# Altium integrated library LARS_409_DIODE.Library.IntLib: 24 symbols
Pins are listed as number, name and electrical type; pins without a type are passive.

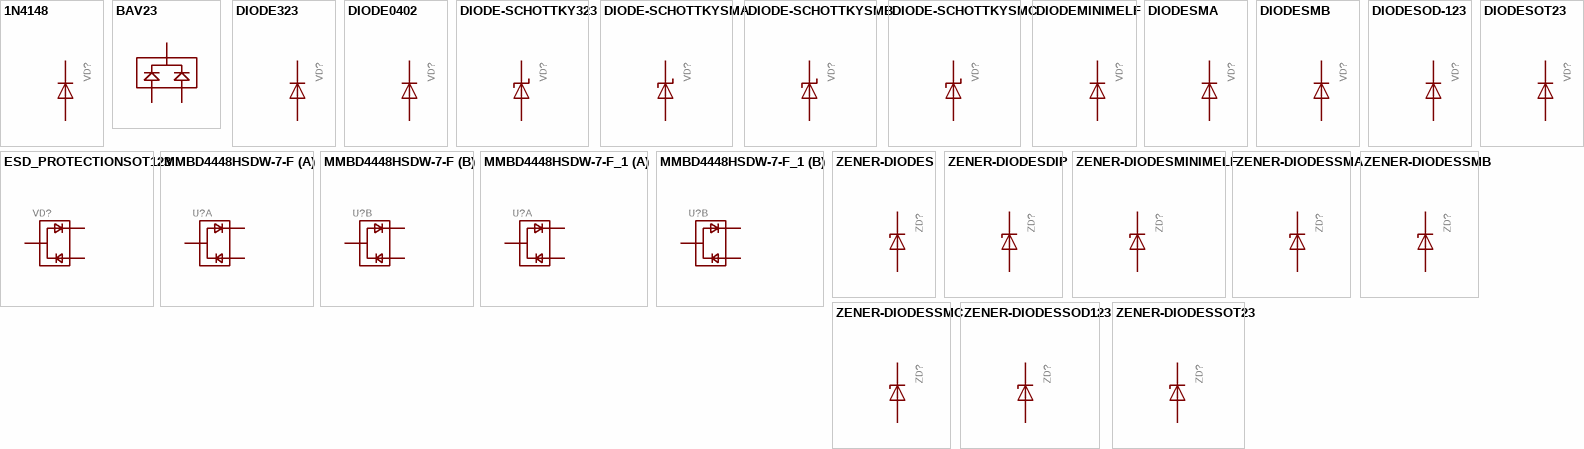
[diagram p0: symbols 1N4148 to ZENER-DIODESSOT23]

## 1N4148
designator VD?
GateName_1: G$1; SymbolName_1: DIODE; DeviceSetName: 1N4148; LibraryName: LARS_409_DIODE; Package: DO-35
footprint DO-35
pins: 1 C, 2 A

## BAV23
designator VD?
GateName_1: G$1; SymbolName_1: BAV23; LibraryName: LARS_409_DIODE; DeviceSetName: BAV23; Package: SOT23
footprint SOT23
pins: 1 (io), 2 (io), 3 (io)

## DIODE323
designator VD?
GateName_1: G$1; SymbolName_1: DIODE; DeviceName: 323; LibraryName: LARS_409_DIODE; DeviceSetName: DIODE; Package: SOD-323
footprint SOD-323
pins: 1 A, 2 C

## DIODE0402
designator VD?
GateName_1: G$1; SymbolName_1: DIODE; DeviceName: 0402; LibraryName: LARS_409_DIODE; DeviceSetName: DIODE; Package: 0402
footprint 0402
pins: 1 C, 2 A

## DIODE-SCHOTTKY323
designator VD?
GateName_1: G$1; SymbolName_1: DIODE-SCHOTTKY; DeviceName: 323; LibraryName: LARS_409_DIODE; DeviceSetName: DIODE-SCHOTTKY; Package: SOD-323
footprint SOD-323
pins: 1 A, 2 C

## DIODE-SCHOTTKYSMA
designator VD?
GateName_1: G$1; SymbolName_1: DIODE-SCHOTTKY; DeviceName: SMA; LibraryName: LARS_409_DIODE; DeviceSetName: DIODE-SCHOTTKY; Package: SMA
footprint SMA
pins: A, C

## DIODE-SCHOTTKYSMB
designator VD?
GateName_1: G$1; SymbolName_1: DIODE-SCHOTTKY; DeviceName: SMB; LibraryName: LARS_409_DIODE; DeviceSetName: DIODE-SCHOTTKY; Package: SMB
footprint SMB
pins: A, C

## DIODE-SCHOTTKYSMC
designator VD?
GateName_1: G$1; SymbolName_1: DIODE-SCHOTTKY; DeviceName: SMC; LibraryName: LARS_409_DIODE; DeviceSetName: DIODE-SCHOTTKY; Package: SMC
footprint SMC
pins: 1 C, 2 A

## DIODEMINIMELF
designator VD?
GateName_1: G$1; SymbolName_1: DIODE; DeviceName: MINIMELF; LibraryName: LARS_409_DIODE; DeviceSetName: DIODE; Package: MINIMELF
footprint MINIMELF
pins: A, C

## DIODESMA
designator VD?
GateName_1: G$1; SymbolName_1: DIODE; DeviceName: SMA; LibraryName: LARS_409_DIODE; DeviceSetName: DIODE; Package: SMA
footprint SMA
pins: A, C

## DIODESMB
designator VD?
GateName_1: G$1; SymbolName_1: DIODE; DeviceName: SMB; LibraryName: LARS_409_DIODE; DeviceSetName: DIODE; Package: SMB
footprint SMB
pins: A, C

## DIODESOD-123
designator VD?
GateName_1: G$1; SymbolName_1: DIODE; DeviceName: SOD-123; LibraryName: LARS_409_DIODE; DeviceSetName: DIODE; Package: SOD123
footprint SOD123
pins: A, C

## DIODESOT23
designator VD?
GateName_1: G$1; SymbolName_1: DIODE; DeviceName: SOT23; LibraryName: LARS_409_DIODE; DeviceSetName: DIODE; Package: SOT23
footprint SOT23
pins: 1 A, 3 C

## ESD_PROTECTIONSOT123
designator VD?
GateName_1: G$1; SymbolName_1: NUP; DeviceName: SOT123; DeviceSetName: ESD_PROTECTION; LibraryName: LARS_409_DIODE; Package: SOT23
footprint SOT23
pins: 1 GND (io), 2 VCC (io), 3 I/O (io)

## MMBD4448HSDW-7-F
designator U?
GateName_1: A; SymbolName_1: NUP; GateName_2: B; DeviceSetName: MMBD4448HSDW-7-F; SymbolName_2: NUP; LibraryName: LARS_409_DIODE; Package: SOT-363
footprint SOT-363
part A pins: P$1 GND (io), P$2 VCC (io), P$6 I/O (io)
part B pins: P$3 I/O (io), P$4 GND (io), P$5 VCC (io)

## MMBD4448HSDW-7-F_1
designator U?
GateName_1: A; SymbolName_1: NUP; GateName_2: B; DeviceSetName: MMBD4448HSDW-7-F; SymbolName_2: NUP; LibraryName: LARS_409_DIODE; Package: SOT-363
footprint SOT-363
part A pins: P$1 GND (io), P$2 VCC (io), P$6 I/O (io)
part B pins: P$3 I/O (io), P$4 GND (io), P$5 VCC (io)

## ZENER-DIODES
designator ZD?
GateName_1: G$1; SymbolName_1: ZENER-DIODE; DeviceSetName: ZENER-DIODES; LibraryName: LARS_409_DIODE; Package: SOD-323
footprint SOD-323
pins: 1 A, 2 C

## ZENER-DIODESDIP
designator ZD?
GateName_1: G$1; SymbolName_1: ZENER-DIODE; DeviceName: DIP; DeviceSetName: ZENER-DIODES; LibraryName: LARS_409_DIODE; Package: DIP
footprint DIP
pins: 1 C, 2 A

## ZENER-DIODESMINIMELF
designator ZD?
GateName_1: G$1; SymbolName_1: ZENER-DIODE; DeviceName: MINIMELF; DeviceSetName: ZENER-DIODES; LibraryName: LARS_409_DIODE; Package: MINIMELF
footprint MINIMELF
pins: A, C

## ZENER-DIODESSMA
designator ZD?
GateName_1: G$1; SymbolName_1: ZENER-DIODE; DeviceName: SMA; DeviceSetName: ZENER-DIODES; LibraryName: LARS_409_DIODE; Package: SMA
footprint SMA
pins: A, C

## ZENER-DIODESSMB
designator ZD?
GateName_1: G$1; SymbolName_1: ZENER-DIODE; DeviceName: SMB; DeviceSetName: ZENER-DIODES; LibraryName: LARS_409_DIODE; Package: SMB
footprint SMB
pins: A, C

## ZENER-DIODESSMC
designator ZD?
GateName_1: G$1; SymbolName_1: ZENER-DIODE; DeviceName: SMC; DeviceSetName: ZENER-DIODES; LibraryName: LARS_409_DIODE; Package: SMC
footprint SMC
pins: 1 C, 2 A

## ZENER-DIODESSOD123
designator ZD?
GateName_1: G$1; SymbolName_1: ZENER-DIODE; DeviceName: SOD123; DeviceSetName: ZENER-DIODES; LibraryName: LARS_409_DIODE; Package: SOD123
footprint SOD123
pins: A, C

## ZENER-DIODESSOT23
designator ZD?
GateName_1: G$1; SymbolName_1: ZENER-DIODE; DeviceName: SOT23; DeviceSetName: ZENER-DIODES; LibraryName: LARS_409_DIODE; Package: SOT23
footprint SOT23
pins: 1 A, 3 C